# Altium schematic symbol library 74HC595.SchLib: 1 symbol
Pins are listed as number, name and electrical type; pins without a type are passive.

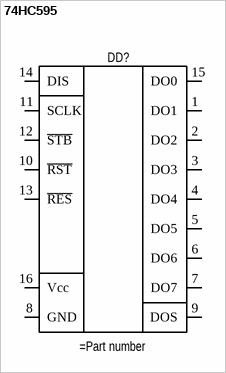
[diagram p0: symbol 74HC595]

## 74HC595
designator DD?
8-bit serial-in, serial or parallel-out shift register with output / latches; 3-state
pins: 1 DO1, 2 DO2, 3 DO3, 4 DO4, 5 DO5, 6 DO6, 7 DO7, 8 GND, 9 DOS, 10 ~{RST}, 11 SCLK, 12 ~{STB}, 13 ~{RES}, 14 DIS, 15 DO0, 16 Vcc